# EAGLE library part MICROSD (library micro-sd)
Micro-SD / Transflash card holder with SPI pinout For the 3M # 2908-05WB-MG and/or 4UCON #19656 push-push type
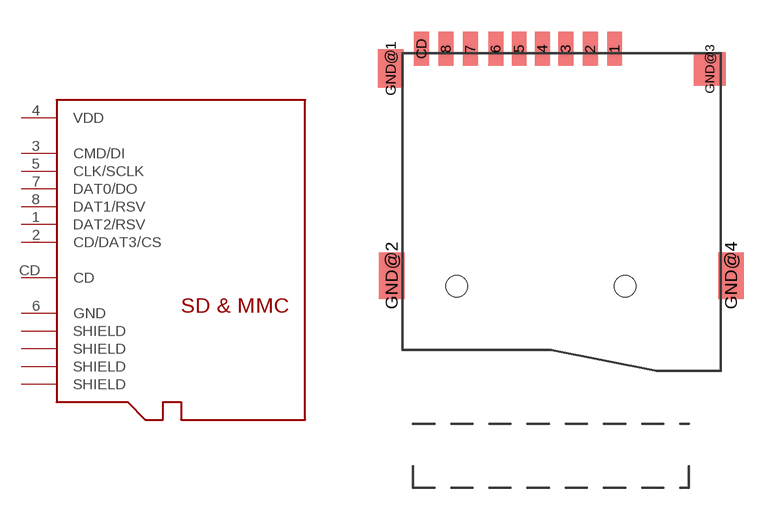
[diagram p0: symbol with the pads of C12075; footprint C12075]

Designator prefix -

## MICROSD  [C12075]
1  DAT2/RSV
2  CD/DAT3/CS
3  CMD/DI
4  VDD  pwr
5  CLK/SCLK
6  GND  pwr
7  DAT0/DO
8  DAT1/RSV
CD  CD
GND@1  SHIELD  pwr
GND@2  SHIELD  pwr
GND@3  SHIELD  pwr
GND@4  SHIELD  pwr

## Footprint C12075 (pad centres in mm)
smd 0.7 x 1.6: 1 2.5,7.7; 2 1.35,7.7; 3 0.2,7.7; 4 -0.9,7.7; 5 -2,7.7; 6 -3.1,7.7; 7 -4.3,7.7; 8 -5.45,7.7; CD -6.6,7.7
smd 1.2 x 1.8: GND@1 -8.05,6.77
smd 1.2 x 2.2: GND@2 -8,-3; GND@4 8,-3
smd 1.5 x 1.6: GND@3 6.99,6.75
hole 1 at -4.95,-3.5
hole 1 at 3,-3.5
hole 1 at 3,-3.5